# Altium schematic symbol library Componentes_base.SchLib: 431 symbols (part 8 of 12)
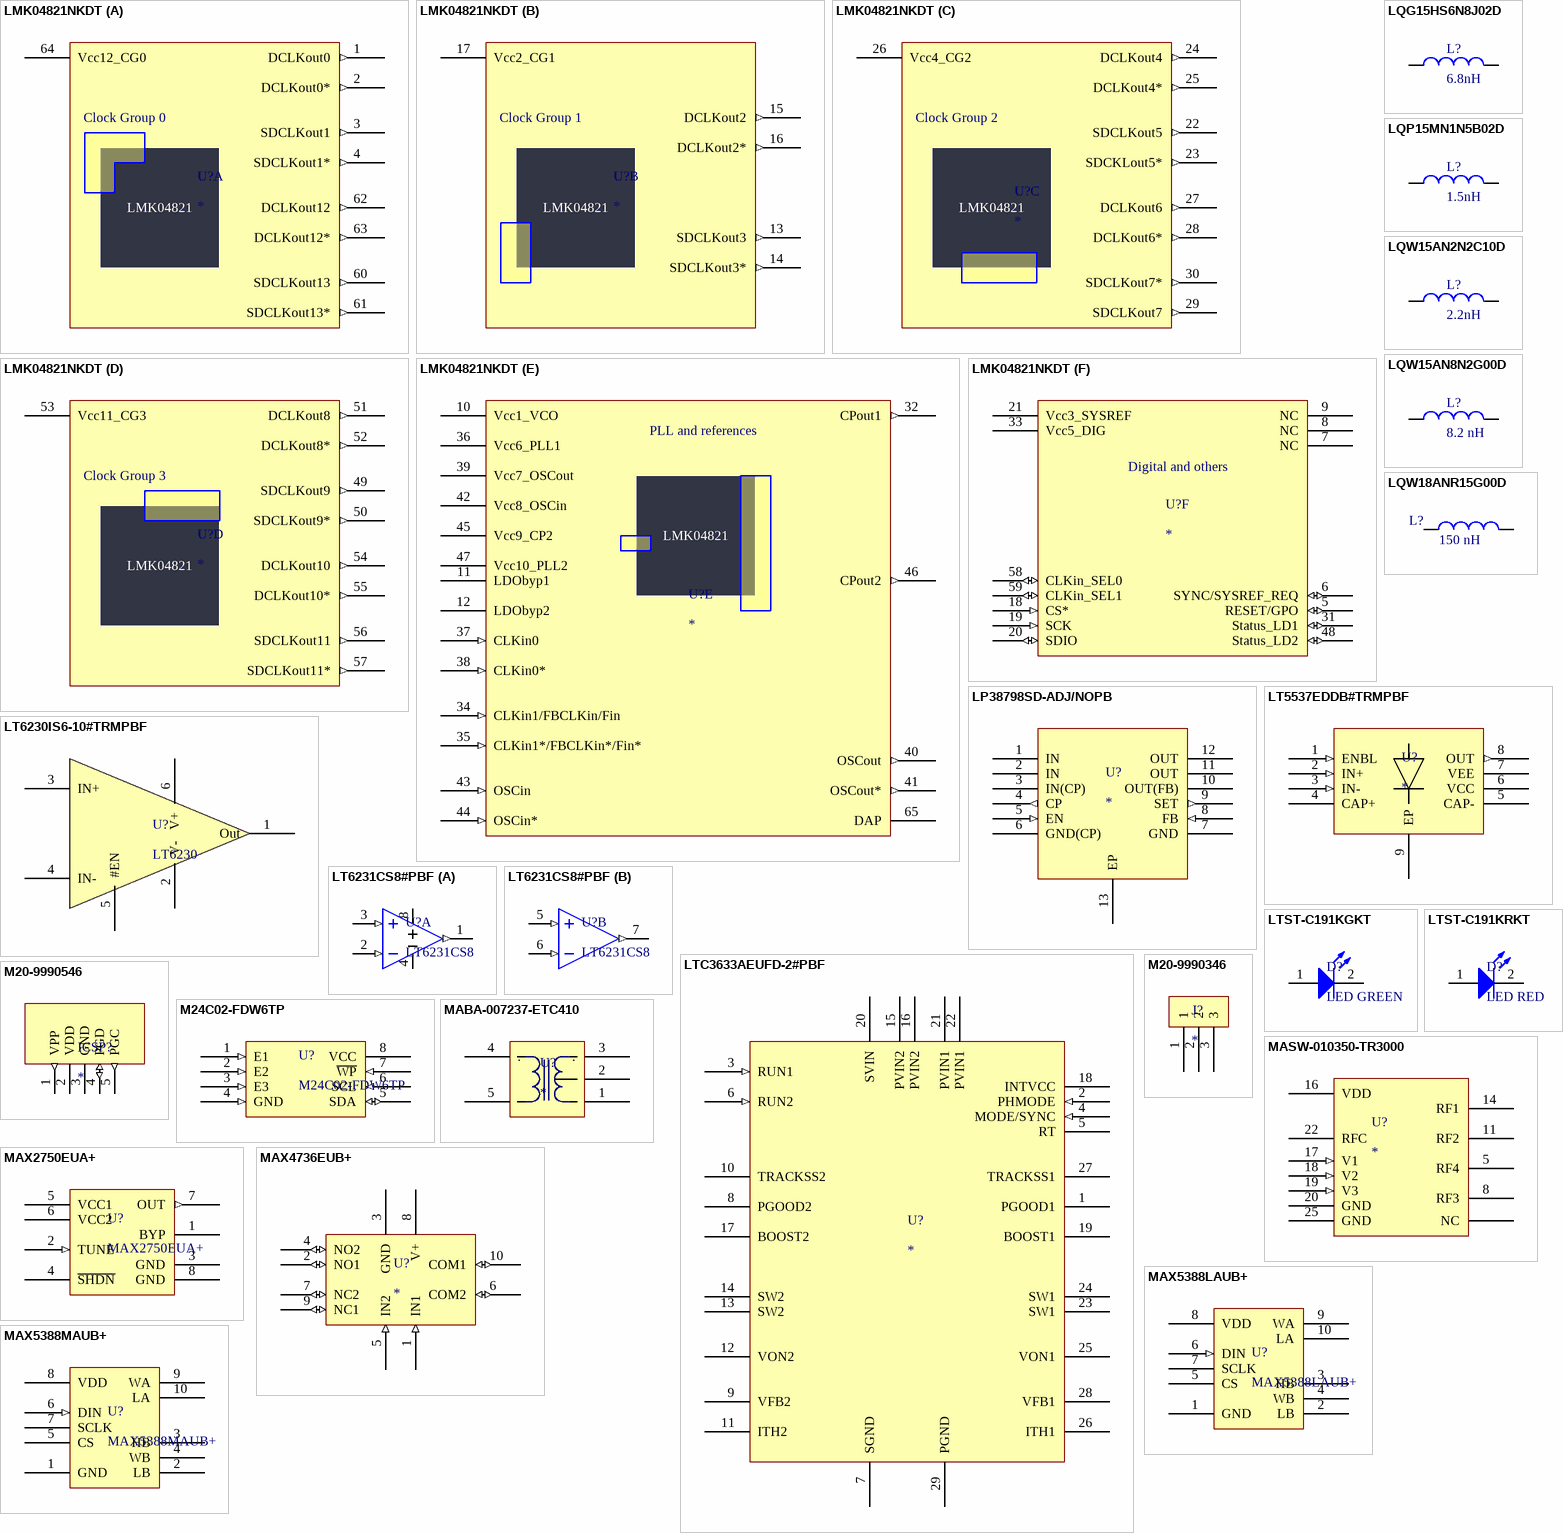
[diagram p21: symbols LMK04821NKDT to MAX5388MAUB+]

## MASW-010350-TR3000
designator U?
RF Switch ICs 10-4000MHZ IL .8dB SP4T GaAs; Manufacturer: MACOM; Manufacturer Part Number: MASW-010350-TR3000; Frequency: 0.01 GHz to 4 GHz; Supply Current: 1 uA; Insertion Loss: 0.8 dB; Off Time - Max: 40 ns; High Control Voltage: 7 V; Number of Switches: Single; Supply Voltage - Min: - 500 mV; Product Status: New Product; Frequency - Lower: 10MHz; Frequency - Upper: 4GHz; Isolation @ Frequency: 45dB @ 4GHz (typ); Insertion Loss @ Frequency: 1.9dB @ 4GHz; IIP3: 50dBm (typ); Topology: Absorptive; P1dB: 27dBm; Impedance: 50 Ohm; RF Type: General Purpose; Supplier 1: Mouser; Supplier Part Number 1: 937-MASW-010350-T; RoHS: RoHS Compliant; Category: RF Switch ICs; Stock 1: 2616; Pricing 1: 1=7.80, 10=7.02, 25=6.38, 100=5.78, 250=5.29, 500=4.84, 1000=4.08, 3000=3.94 (EUR); Package/Case: PQFN-24; Packaging: Reel; Series: MASW; Brand: MACOM; Mounting Style: SMD/SMT; On Time - Max: 40 ns; Switch Current - Typ: 1 uA; Maximum Operating Temperature: + 85 C; Minimum Operating Temperature: - 40 C; Standard Pack Qty: 3000; Supply Voltage - Max: 7 V; Switch Configuration: SP4T; RoHS - Mouser: Y; Minimum Order Quantity: 1; Reeling: True; ComponentLink1URL: http://www.mouser.com/ds/2/249/MASW-010350-473666.pdf; ComponentLink1Description: http://www.mouser.com/ds/2/249/MASW-010350-473666.pdf; Supplier 2: Digi-Key; Supplier Part Number 2: 1465-1370-1-ND; Stock 2: 2443; Pricing 2: 1=7.95, 10=7.145, 25=6.498, 100=5.8821, 250=5.38932, 500=4.92738, 1000=4.28066 (EUR); Circuit: SP4T; Features: -; Operating Temperature: -40°C ~ 85°C; Voltage - Supply: -; Package / Case: 24-VFQFN Exposed Pad; Supplier Device Package: 24-PQFN (4x4); ComponentLink2URL: http://cdn.macom.com/datasheets/MASW-010350.pdf; ComponentLink2Description: http://cdn.macom.com/datasheets/MASW-010350.pdf
footprint QFN50P400X400X100_HS-25N (QFN, 24-Leads, Body 4,00x4,00mm, Pitch 0,50mm, Thermal Pad 2,50x2,50mm, IPC Medium Density)
pins: 1 NC, 2 NC, 3 NC, 4 NC, 5 RF4, 6 NC, 7 NC, 8 RF3, 9 NC, 10 NC, 11 RF2, 12 NC, 13 NC, 14 RF1, 15 NC, 16 VDD (power), 17 V1 (in), 18 V2 (in), 19 V3 (in), 20 GND (power), 21 NC, 22 RFC, 23 NC, 24 NC, 25 GND (power)

## MAX2750EUA+
designator U?
IC OSC VOLT CNTRL 8-UMAX; Manufacturer: Maxim Integrated; Function: VCO; Frequency: 2.4GHz ~ 2.5GHz; RF Type: ISM; Secondary Attributes: On-Chip Tank Circuit; Supplier 1: Digi-Key; Manufacturer Part Number: MAX2750EUA+; RoHS: RoHS Compliant; Category: RF/IF and RFID; Stock 1: 2116; Pricing 1: 1=4.43, 10=4.21, 25=3.4664, 50=3.2932, 250=3.19312, 500=2.83092 (EUR); Packaging: Tube; Part Status: Active; Package / Case: 8-TSSOP, 8-MSOP (0.118", 3.00mm Width); Supplier Device Package: 8-uMAX; ComponentLink1URL: http://datasheets.maximintegrated.com/en/ds/MAX2750-MAX2752.pdf; ComponentLink1Description: http://datasheets.maximintegrated.com/en/ds/MAX2750-MAX2752.pdf; Supplier Part Number 1: MAX2750EUA+-ND
footprint uSOP-8 uMAX (TSOP, 8-Leads, Body 3,00x3,00mm, Pitch 0,65mm, IPC Medium Density)
pins: 1 BYP, 2 TUNE (in), 3 GND, 4 ~{SHDN}, 5 VCC1, 6 VCC2, 7 OUT (out), 8 GND

## MAX4736EUB+
designator U?
IC SWITCH DUAL SPDT 10UMAX; Manufacturer: Maxim Integrated; Manufacturer Part Number: MAX4736EUB+; Supply Current: 1 uA; Off Time - Max: 25 ns; On Resistance - Max: 1 Ohms; On Time - Max: 30 ns; Supply Current - Max: 0.001 mA; Maximum Power Dissipation: 444 mW; Number of Switches: 2; Operating Supply Voltage: 3 V; Supply Voltage - Max: 3.6 V; Supply Voltage - Min: 1.6 V; Circuit: 2 x SPDT; On-State Resistance: 800 mOhm; Voltage Supply Source: Single Supply; Voltage - Supply, Single/Dual (±): 1.6 V ~ 4.2 V; Current - Supply: 1µA; Supplier 1: Mouser; Supplier Part Number 1: 700-MAX4736EUB; RoHS: RoHS Compliant; Category: Analogue Switch ICs; Stock 1: 221; Pricing 1: 1=1.99, 25=1.78, 50=1.74, 100=1.70, 1000=1.68, 2000=1.63 (EUR); Package/Case: UMAX-10; Packaging: Tube; Series: MAX4736; Brand: Maxim Integrated; Mounting Style: SMD/SMT; Maximum Operating Temperature: + 55 C; Minimum Operating Temperature: - 40 C; Standard Pack Qty: 50; Switch Configuration: SPDT; RoHS - Mouser: Y; Minimum Order Quantity: 1; Reeling: False; ComponentLink1URL: http://www.mouser.com/ds/2/256/MAX4736-60550.pdf; ComponentLink1Description: http://www.mouser.com/ds/2/256/MAX4736-60550.pdf; Supplier 2: Digi-Key; Supplier Part Number 2: MAX4736EUB+-ND; Stock 2: 402; Pricing 2: 1=2.09, 10=1.978, 25=1.8488, 50=1.7852 (EUR); Function: Switch; Operating Temperature: -40°C ~ 85°C; Mounting Type: Surface Mount; Package / Case: 10-TFSOP, 10-MSOP (0.118", 3.00mm Width); Supplier Device Package: 10-uMAX; ComponentLink2URL: http://datasheets.maximintegrated.com/en/ds/MAX4736.pdf; ComponentLink2Description: http://datasheets.maximintegrated.com/en/ds/MAX4736.pdf
footprint uMAX10 (uMAX10 10-Leads, Body 2,97x2,97mm, Pitch 0,50mm, IPC Medium Density)
pins: 1 IN1 (in), 2 NO1 (io), 3 GND (power), 4 NO2 (io), 5 IN2 (in), 6 COM2 (io), 7 NC2 (io), 8 V+ (power), 9 NC1 (io), 10 COM1 (io)

## MAX5388LAUB+
designator U?
IC DGTL POT 256POS 10K 10UMAX; Manufacturer: Maxim Integrated; Configuration: Potentiometer, Rheostat; Number of Taps: 256; Interface: SPI; Memory Type: Volatile; Voltage - Supply: 2.6 V ~ 5.5 V; Tolerance: ±25%; Temperature Coefficient (Typ): 35 ppm/°C; Resistance - Wiper (Ohms) (Typ): 250; Supplier 1: Digi-Key; Manufacturer Part Number: MAX5388LAUB+; RoHS: RoHS Compliant; Category: Integrated Circuits (ICs); Stock 1: 396; Pricing 1: 1=1.09, 10=1.053, 50=1.0366 (EUR); Packaging: Tube; Part Status: Active; Taper: Linear; Resistance (Ohms): 10k; Features: -; Operating Temperature: -40°C ~ 125°C; Package / Case: 10-TFSOP, 10-MSOP (0.118", 3.00mm Width); Supplier Device Package: 10-uMAX; ComponentLink1URL: https://datasheets.maximintegrated.com/en/ds/MAX5386-MAX5388.pdf; ComponentLink1Description: https://datasheets.maximintegrated.com/en/ds/MAX5386-MAX5388.pdf; Supplier Part Number 1: MAX5388LAUB+-ND
footprint uSOP-10 uMAX (TSSOP, 10-Leads, Body 3,02x3,02mm, Pitch 0,50mm, IPC Medium Density)
pins: 1 GND (power), 2 LB, 3 HB, 4 WB, 5 CS, 6 DIN (in), 7 SCLK, 8 VDD (power), 9 WA, 10 LA

## MAX5388MAUB+
designator U?
IC DGTL POT 256POS 50K 10UMAX; Manufacturer: Maxim Integrated; Configuration: Potentiometer, Rheostat; Number of Circuits: 2; Number of Taps: 256; Interface: SPI; Memory Type: Volatile; Voltage - Supply: 2.6 V ~ 5.5 V; Tolerance: ±25%; Temperature Coefficient (Typ): 35 ppm/°C; Resistance - Wiper (Ohms) (Typ): 250; Supplier 1: Digi-Key; Manufacturer Part Number: MAX5388MAUB+; RoHS: RoHS Compliant; Category: Integrated Circuits (ICs); Stock 1: 338; Pricing 1: 1=1.04, 10=0.982 (EUR); Packaging: Tube; Part Status: Active; Taper: Linear; Resistance (Ohms): 50k; Features: -; Operating Temperature: -40°C ~ 125°C; Package / Case: 10-TFSOP, 10-MSOP (0.118", 3.00mm Width); Supplier Device Package: 10-uMAX; ComponentLink1URL: https://datasheets.maximintegrated.com/en/ds/MAX5386-MAX5388.pdf; ComponentLink1Description: https://datasheets.maximintegrated.com/en/ds/MAX5386-MAX5388.pdf; Supplier Part Number 1: MAX5388MAUB+-ND
footprint uSOP-10 uMAX (TSSOP, 10-Leads, Body 3,02x3,02mm, Pitch 0,50mm, IPC Medium Density)
pins: 1 GND (power), 2 LB, 3 HB, 4 WB, 5 CS, 6 DIN (in), 7 SCLK, 8 VDD (power), 9 WA, 10 LA

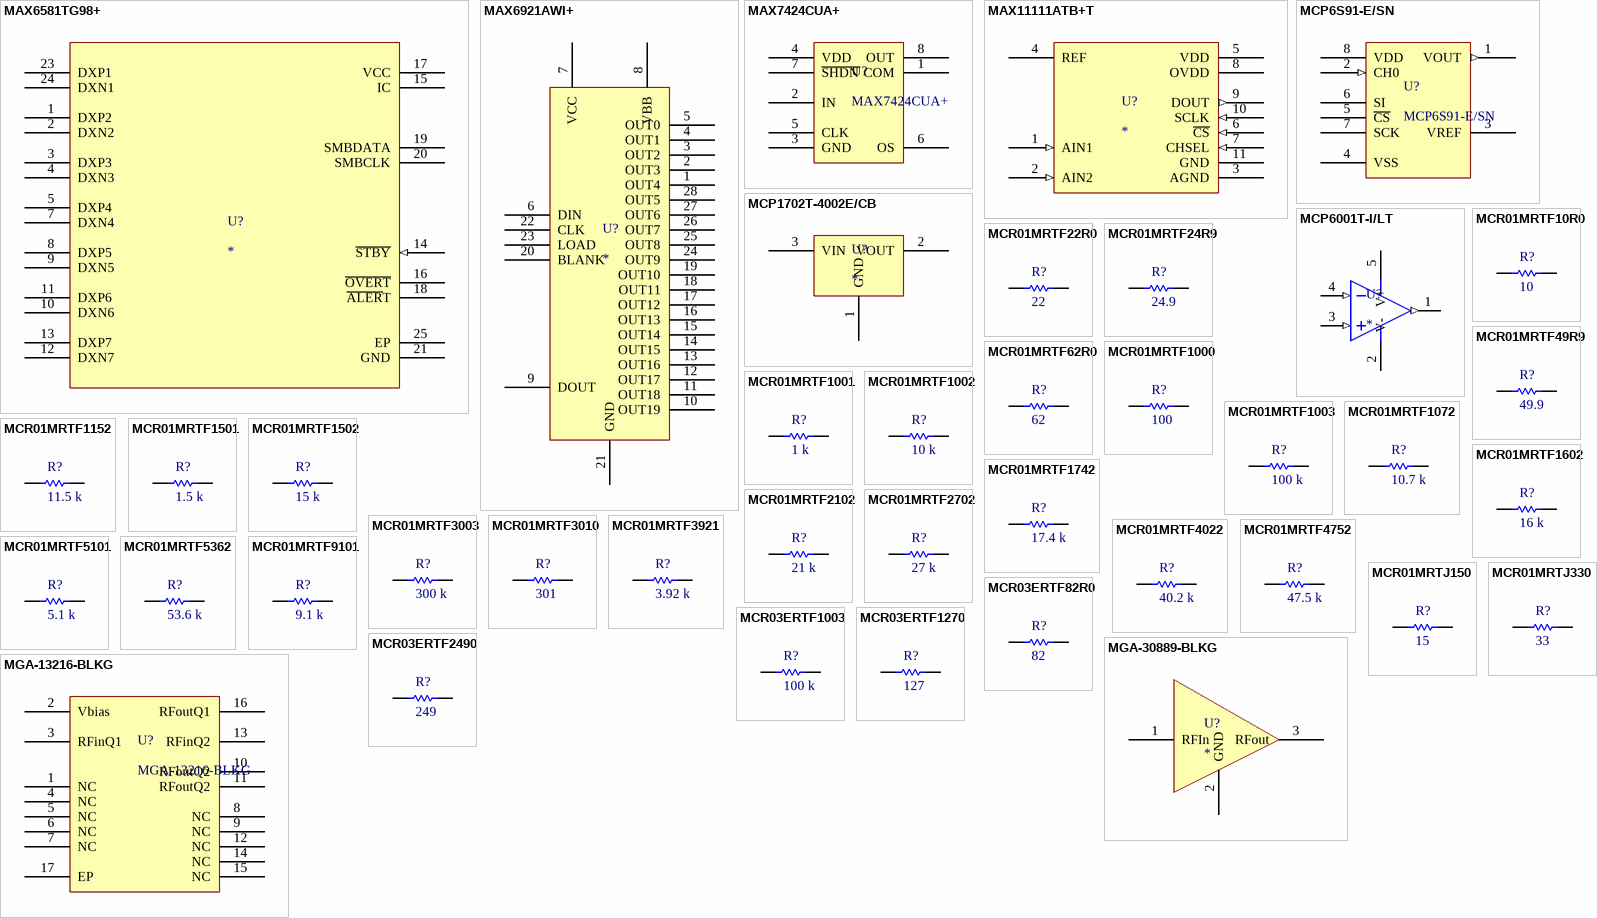
[diagram p8: symbols MAX6581TG98+ to MGA-30889-BLKG]

## MAX6581TG98+
designator U?
Board Mount Temperature Sensors 1C Accurate 8Ch Temperature Sensor; Manufacturer: Maxim Integrated; Manufacturer Part Number: MAX6581TG98+; Accuracy: +/- 1 C; Configuration: Local, Remote; Device Function: Multichannel Sensor; Output Type: Digital; Supply Current: 4 uA; Digital Output - Bus Interface: 2-Wire, I2C, SMBus; Digital Output - Number of Bits: 11 bit; Temperature Threshold: Programmable; Maximum Power Dissipation: 2.222 W; Supply Voltage - Max: 3.6 V; Supply Voltage - Min: 3 V; Function: Temperature Monitor; Sensor Type: Internal and External; Sensing Temperature: -64°C ~ 150°C; Output Alarm: Yes; Voltage - Supply: 3 V ~ 3.6 V; Supplier 1: Mouser; Supplier Part Number 1: 700-MAX6581TG98+; RoHS: RoHS Compliant; Category: Board Mount Temperature Sensors; Stock 1: 80; Pricing 1: 1=2.81, 25=1.89, 50=1.78, 100=1.36, 250=1.30, 500=1.20, 1000=1.18 (EUR); Package/Case: TQFN-24; Packaging: Tube; Series: MAX6581; Brand: Maxim Integrated; Mounting Style: SMD/SMT; Shutdown: Shutdown; Maximum Operating Temperature: + 125 C; Minimum Operating Temperature: - 40 C; Standard Pack Qty: 75; RoHS - Mouser: Y; Minimum Order Quantity: 1; Reeling: False; ComponentLink1URL: http://www.mouser.com/ds/2/256/MAX6581-370352.pdf; ComponentLink1Description: http://www.mouser.com/ds/2/256/MAX6581-370352.pdf; Supplier 2: Digi-Key; Supplier Part Number 2: MAX6581TG98+-ND; Stock 2: 56; Pricing 2: 1=2.94, 10=2.788, 25=1.9564, 50=1.8586, 100=1.418, 250=1.34716, 500=1.2473 (EUR); Topology: -; Output Fan: Yes; Operating Temperature: -40°C ~ 125°C; Mounting Type: Surface Mount; Package / Case: 24-WFQFN Exposed Pad; Supplier Device Package: 24-TQFN (4x4); ComponentLink2URL: http://datasheets.maximintegrated.com/en/ds/MAX6581.pdf; ComponentLink2Description: http://datasheets.maximintegrated.com/en/ds/MAX6581.pdf
footprint QFN50P400X400X80_HS-25N (QFN, 24-Leads, Body 4,00x4,00mm, Pitch 0,50mm, Thermal Pad 2,54x2,54mm, IPC Medium Density)
pins: 1 DXP2, 2 DXN2, 3 DXP3, 4 DXN3, 5 DXP4, 7 DXN4, 8 DXP5, 9 DXN5, 10 DXN6, 11 DXP6, 12 DXN7, 13 DXP7, 14 ~{STBY} (in), 15 IC, 16 ~{OVERT} (oc), 17 VCC (power), 18 ~{ALER}T (oc), 19 SMBDATA, 20 SMBCLK, 21 GND (power), 23 DXP1, 24 DXN1, 25 EP (power)

## MAX6921AWI+
designator U?
IC DRVR VFD TUBE SRL 28-SOIC
footprint TSOP127P1030X265-28N (SOP, 28-Leads, Body 17,90x7,50mm, Pitch 1,27mm, IPC Medium Density)
pins: 1 OUT4, 2 OUT3, 3 OUT2, 4 OUT1, 5 OUT0, 6 DIN, 7 VCC, 8 VBB, 9 DOUT, 10 OUT19, 11 OUT18, 12 OUT17, 13 OUT16, 14 OUT15, 15 OUT14, 16 OUT13, 17 OUT12, 18 OUT11, 19 OUT10, 20 BLANK, 21 GND, 22 CLK, 23 LOAD, 24 OUT9, 25 OUT8, 26 OUT7, 27 OUT6, 28 OUT5

## MAX7424CUA+
designator U?
IC FILTER LOWPASS 5TH 8-UMAX; Manufacturer: Maxim Integrated; Filter Type: Butterworth, Low Pass Switched Capacitor; Frequency - Cutoff or Center: 45kHz; Voltage - Supply: 2.7 V ~ 3.6 V; Supplier 1: Digi-Key; Manufacturer Part Number: MAX7424CUA+; RoHS: RoHS Compliant; Category: Integrated Circuits (ICs); Stock 1: 187; Pricing 1: 1=3.48, 10=3.348 (EUR); Packaging: Tube; Part Status: Active; Filter Order: 5th; Mounting Type: Surface Mount; Package / Case: 8-TSSOP, 8-MSOP (0.118", 3.00mm Width); Supplier Device Package: 8-uMAX; ComponentLink1URL: http://datasheets.maximintegrated.com/en/ds/MAX7418-MAX7425.pdf; ComponentLink1Description: http://datasheets.maximintegrated.com/en/ds/MAX7418-MAX7425.pdf; Supplier Part Number 1: MAX7424CUA+-ND
footprint uSOP-8 uMAX (TSOP, 8-Leads, Body 3,00x3,00mm, Pitch 0,65mm, IPC Medium Density)
pins: 1 COM, 2 IN, 3 GND, 4 VDD, 5 CLK, 6 OS, 7 ~{SHDN}, 8 OUT

## MAX11111ATB+T
designator U?
Analog to Digital Converters - ADC 8Bit 2Ch 3Msps Serial; Manufacturer: Maxim Integrated; Manufacturer Part Number: MAX11111ATB+T; Input Type: Single-Ended; Number of Converters: 1; Architecture: SAR; Conversion Rate: 3 MS/s; Interface Type: QSPI, Serial, SPI (3-Wire, Microwire); Number of Channels: 2 Channel; SNR: 49.8 dB; Maximum Power Dissipation: 1951 mW; Operating Supply Voltage: 2.2 V to 3.6 V; Voltage Reference: 1 V; Supplier 1: Mouser; Supplier Part Number 1: 700-MAX11111ATB+T; RoHS: RoHS Compliant; Category: Analog to Digital Converters - ADC; Stock 1: 2500; Pricing 1: 1=2.27, 25=1.70, 50=1.57, 100=1.50, 250=1.47, 500=1.33, 1000=1.24, 2500=1.04, 5000=1.03 (EUR); Package/Case: TDFN-10; Packaging: Reel; Resolution: 8 bit; Series: MAX11111; Brand: Maxim Integrated; Mounting Style: SMD/SMT; Maximum Operating Temperature: + 125 C; Minimum Operating Temperature: - 40 C; Standard Pack Qty: 2500; RoHS - Mouser: Y; Minimum Order Quantity: 1; Reeling: True; ComponentLink1URL: http://www.mouser.com/ds/2/256/MAX11102-MAX11117-96241.pdf; ComponentLink1Description: http://www.mouser.com/ds/2/256/MAX11102-MAX11117-96241.pdf
footprint DFN50P300X300X80_HS-11N (DFN, 10-Leads, Body 3,00x3,00mm, Pitch 0,50mm, Thermal Pad 2,30x1,50mm, IPC Medium Density)
pins: 1 AIN1 (in), 2 AIN2 (in), 3 AGND (power), 4 REF, 5 VDD (power), 6 ~{CS} (in), 7 CHSEL (in), 8 OVDD (power), 9 DOUT (out), 10 SCLK (in), 11 GND (power)

## MCP6S91-E/SN
designator U?
IC OPAMP PGA 18MHZ RRO 8SOIC; Manufacturer: Microchip Technology; Amplifier Type: Programmable Gain; Number of Circuits: 1; Output Type: Rail-to-Rail; Slew Rate: 22 V/µs; Current - Supply: 1mA; Current - Output / Channel: 25mA; Voltage - Supply, Single/Dual (±): 2.5 V ~ 5.5 V; Supplier 1: Digi-Key; Manufacturer Part Number: MCP6S91-E/SN; RoHS: RoHS Compliant; Category: Integrated Circuits (ICs); Stock 1: 9761; Pricing 1: 1=0.82, 25=0.684, 100=0.6261 (EUR); Packaging: Tube; Part Status: Active; -3db Bandwidth: 18MHz; Operating Temperature: -40°C ~ 125°C; Mounting Type: Surface Mount; Package / Case: 8-SOIC (0.154", 3.90mm Width); Supplier Device Package: 8-SOIC; ComponentLink1URL: http://www.microchip.com/mymicrochip/filehandler.aspx?ddocname=en021308; ComponentLink1Description: http://www.microchip.com/mymicrochip/filehandler.aspx?ddocname=en021308; Supplier Part Number 1: MCP6S91-E/SN-ND
footprint SOIC-8 (SOIC, 8-Leads, Body 4,90x3,90mm, Pitch 1,27mm, IPC Medium Density)
pins: 1 VOUT (out), 2 CH0 (in), 3 VREF (power), 4 VSS (power), 5 ~{CS}, 6 SI, 7 SCK, 8 VDD (power)

## MCP1702T-4002E/CB
designator U?
LDO Voltage Regulators Low Iq 250mA LDO Vin 13.2V max Vout=4.0V; Manufacturer: Microchip Technology; Manufacturer Part Number: MCP1702T-4002E/CB; Number of Outputs: 1 Output; Output Type: Fixed; Output Voltage: 4 V; Dropout Voltage - Max: 725 mV; PSRR / Ripple Rejection - Typ: 44 dB at 100 Hz; Input Voltage MIN: 2.7 V; Line Regulation: 0.3 %/V; Load Regulation: 2.5 %; Regulator Topology: Positive Fixed; Voltage - Output: 4V; Voltage - Dropout (Typical): 0.525V @ 250mA; Number of Regulators: 1; Voltage - Input: Up to 13.2V; Supplier 1: Mouser; Supplier Part Number 1: 579-MCP1702T4002E/CB; RoHS: RoHS Compliant; Category: LDO Voltage Regulators; Stock 1: 979; Pricing 1: 1=0.450, 10=0.415, 25=0.346, 100=0.311, 3000=0.311 (EUR); Input Voltage MAX: 13.2 V; Output Current: 250 mA; Package/Case: SOT-23A-3; Packaging: Reel; Brand: Microchip Technology; Mounting Style: SMD/SMT; Maximum Operating Temperature: + 125 C; Minimum Operating Temperature: - 40 C; Standard Pack Qty: 3000; RoHS - Mouser: Y; Minimum Order Quantity: 1; Reeling: True; ComponentLink1URL: http://www.mouser.com/ds/2/268/22008d-45809.pdf; ComponentLink1Description: http://www.mouser.com/ds/2/268/22008d-45809.pdf; Supplier 2: Digi-Key; Supplier Part Number 2: MCP1702T-4002E/CBCT-ND; Stock 2: 6209; Pricing 2: 1=0.51, 10=0.422, 25=0.352, 100=0.3168 (EUR); Current - Output: 250mA; Current - Limit (Min): -; Operating Temperature: -40°C ~ 125°C; Mounting Type: Surface Mount; Package / Case: TO-236-3, SC-59, SOT-23-3; Supplier Device Package: SOT-23A-3; ComponentLink2URL: http://www.microchip.com/mymicrochip/filehandler.aspx?ddocname=en028186; ComponentLink2Description: http://www.microchip.com/mymicrochip/filehandler.aspx?ddocname=en028186
footprint SOT95P230X110-3N (SOT23, 3-Leads, Body 2,90x2,30mm, Pitch 0,95mm, IPC Medium Density)
pins: 1 GND (power), 2 VOUT (power), 3 VIN (power)

## MCP6001T-I/LT
designator U?
Operational Amplifiers - Op Amps Single 1.8V 1MHz; Manufacturer: Microchip Technology; Manufacturer Part Number: MCP6001T-I/LT; Amplifier Type: Low Power Amplifier; Number of Channels: 1 Channel; Shutdown: No Shutdown; CMRR - Common Mode Rejection Ratio: 60 dB; en - Input Voltage Noise Density: 28 nV/sqrt Hz; Ib - Input Bias Current: 1 pA; In - Input Noise Current Density: 0.0006 pA/sqrt Hz; Operating Supply Current: 100 uA; Output Current per Channel: 23 mA; PSRR - Power Supply Rejection Ratio: 86 dB; SR - Slew Rate: 0.6 V/us; Supply Voltage - Max: 5.5 V; Vos - Input Offset Voltage: 4.5 mV; Supplier 1: Mouser; RoHS: RoHS Compliant; Category: Operational Amplifiers - Op Amps; Stock 1: 33208; Pricing 1: 1=0.253, 10=0.235, 25=0.190, 100=0.172, 3000=0.172 (EUR); Package/Case: SC-70-5; Packaging: Reel; Product: Operational Amplifiers; Technology: CMOS; Brand: Microchip Technology; Mounting Style: SMD/SMT; GBP - Gain Bandwidth Product: 1 MHz; Maximum Operating Temperature: + 85 C; Minimum Operating Temperature: - 40 C; Product Category: Amplifiers; Standard Pack Qty: 3000; Supply Voltage - Min: 1.8 V; RoHS - Mouser: Y; Minimum Order Quantity: 1; Reeling: True; ComponentLink1URL: http://www.mouser.com/ds/2/268/21733e-41017.pdf; ComponentLink1Description: http://www.mouser.com/ds/2/268/21733e-41017.pdf; Supplier Part Number 1: 579-MCP6001T-I/LT
footprint SC70P210X110-5L (SC-70 5-Leads, Body 2,00x2,10mm, Pitch 0,65mm, IPC High Density)
pins: 1 OUT (out), 2 V- (power), 3 IN+ (in), 4 IN- (in), 5 V+ (power)

## MCR01MRTF10R0
designator R?, comment 10
RES 10 OHM 1/16W 1% 0402 SMD; Manufacturer: Rohm Semiconductor; Manufacturer Part Number: MCR01MRTF10R0; Power (Watts): 0.063W, 1/16W; Temperature Coefficient: ±100ppm/°C; Supplier 1: Digi-Key; Supplier Part Number 1: RHM10.0CDCT-ND; RoHS: RoHS Compliant; Category: Resistors; Stock 1: 323665; Pricing 1: 1=0.09, 10=0.011, 25=0.008, 100=0.0046, 250=0.00348, 500=0.00278, 1000=0.00205, 5000=0.00147 (EUR); Packaging: Cut Tape (CT); Resistance (Ohms): 10; Tolerance: ±1%; Composition: Thick Film; Features: -; Operating Temperature: -55°C ~ 155°C; Package / Case: 0402 (1005 Metric); Supplier Device Package: 0402 (1005 Metric); Size / Dimension: 0.039" L x 0.020" W (1.00mm x 0.50mm); Height: 0.016" (0.40mm); Number of Terminations: 2; ComponentLink1URL: http://rohmfs.rohm.com/en/products/databook/datasheet/passive/resistor/chip_resistor/mcr_g.pdf; ComponentLink1Description: http://rohmfs.rohm.com/en/products/databook/datasheet/passive/resistor/chip_resistor/mcr_g.pdf
footprint RESC1005X04L (Chip Resistor, 2-Leads, Body 1,00x0,50mm, IPC High Density)
pins: 1, 2

## MCR01MRTF22R0
designator R?, comment 22
RES 22 OHM 1/16W 1% 0402 SMD; Manufacturer: Rohm Semiconductor; Manufacturer Part Number: MCR01MRTF22R0; Power (Watts): 0.063W, 1/16W; Temperature Coefficient: ±100ppm/°C; Supplier 1: Digi-Key; Supplier Part Number 1: RHM22.0CDCT-ND; RoHS: RoHS Compliant; Category: Resistors; Stock 1: 157202; Pricing 1: 1=0.09, 10=0.011, 25=0.008, 100=0.0046, 250=0.00348, 500=0.00278, 1000=0.00205, 5000=0.00147 (EUR); Packaging: Cut Tape (CT); Resistance (Ohms): 22; Tolerance: ±1%; Composition: Thick Film; Features: -; Operating Temperature: -55°C ~ 155°C; Package / Case: 0402 (1005 Metric); Supplier Device Package: 0402 (1005 Metric); Size / Dimension: 0.039" L x 0.020" W (1.00mm x 0.50mm); Height: 0.016" (0.40mm); Number of Terminations: 2; ComponentLink1URL: http://rohmfs.rohm.com/en/products/databook/datasheet/passive/resistor/chip_resistor/mcr_g.pdf; ComponentLink1Description: http://rohmfs.rohm.com/en/products/databook/datasheet/passive/resistor/chip_resistor/mcr_g.pdf
footprint RESC1005X04L (Chip Resistor, 2-Leads, Body 1,00x0,50mm, IPC High Density)
pins: 1, 2

## MCR01MRTF24R9
designator R?, comment 24.9
RES SMD 24.9 OHM 1% 1/16W 0402; Manufacturer: Rohm Semiconductor; Manufacturer Part Number: MCR01MRTF24R9; Power (Watts): 0.063W, 1/16W; Temperature Coefficient: ±100ppm/°C; Supplier 1: Digi-Key; RoHS: RoHS Compliant; Category: Resistors; Stock 1: 33185; Pricing 1: 1=0.09, 10=0.026, 25=0.0184, 100=0.0103, 250=0.00792, 500=0.00632, 1000=0.00466, 5000=0.00334 (EUR); Packaging: Cut Tape (CT); Resistance (Ohms): 24.9; Tolerance: ±1%; Composition: Thick Film; Features: -; Operating Temperature: -55°C ~ 155°C; Package / Case: 0402 (1005 Metric); Supplier Device Package: 0402 (1005 Metric); Size / Dimension: 0.039" L x 0.020" W (1.00mm x 0.50mm); Height: 0.016" (0.40mm); Number of Terminations: 2; ComponentLink1URL: http://rohmfs.rohm.com/en/products/databook/datasheet/passive/resistor/chip_resistor/mcr_g.pdf; ComponentLink1Description: http://rohmfs.rohm.com/en/products/databook/datasheet/passive/resistor/chip_resistor/mcr_g.pdf; Supplier Part Number 1: RHM24.9CDCT-ND
footprint RESC1005X04L (Chip Resistor, 2-Leads, Body 1,00x0,50mm, IPC High Density)
pins: 1, 2

## MCR01MRTF49R9
designator R?, comment 49.9
RES 49.9 OHM 1/16W 1% 0402 SMD; Manufacturer: Rohm Semiconductor; Manufacturer Part Number: MCR01MRTF49R9; Power (Watts): 0.063W, 1/16W; Temperature Coefficient: ±100ppm/°C; Supplier 1: Digi-Key; Supplier Part Number 1: RHM49.9CDCT-ND; RoHS: RoHS Compliant; Category: Resistors; Stock 1: 141395; Pricing 1: 1=0.09, 10=0.011, 25=0.008, 100=0.0046, 250=0.00348, 500=0.00278, 1000=0.00205, 5000=0.00147 (EUR); Packaging: Cut Tape (CT); Resistance (Ohms): 49.9; Tolerance: ±1%; Composition: Thick Film; Features: -; Operating Temperature: -55°C ~ 155°C; Package / Case: 0402 (1005 Metric); Supplier Device Package: 0402 (1005 Metric); Size / Dimension: 0.039" L x 0.020" W (1.00mm x 0.50mm); Height: 0.016" (0.40mm); Number of Terminations: 2; ComponentLink1URL: http://rohmfs.rohm.com/en/products/databook/datasheet/passive/resistor/chip_resistor/mcr_g.pdf; ComponentLink1Description: http://rohmfs.rohm.com/en/products/databook/datasheet/passive/resistor/chip_resistor/mcr_g.pdf
footprint RESC1005X04L (Chip Resistor, 2-Leads, Body 1,00x0,50mm, IPC High Density)
pins: 1, 2

## MCR01MRTF62R0
designator R?, comment 62
RES SMD 62 OHM 1% 1/16W 0402; Manufacturer: Rohm Semiconductor; Manufacturer Part Number: MCR01MRTF62R0; Power (Watts): 0.063W, 1/16W; Temperature Coefficient: ±100ppm/°C; Supplier 1: Digi-Key; RoHS: RoHS Compliant; Category: Resistors; Stock 1: 12941; Pricing 1: 1=0.09, 10=0.026, 25=0.0184, 100=0.0103, 250=0.00792, 500=0.00632, 1000=0.00466, 5000=0.00334 (EUR); Packaging: Cut Tape (CT); Resistance (Ohms): 62; Tolerance: ±1%; Composition: Thick Film; Features: -; Operating Temperature: -55°C ~ 155°C; Package / Case: 0402 (1005 Metric); Supplier Device Package: 0402 (1005 Metric); Size / Dimension: 0.039" L x 0.020" W (1.00mm x 0.50mm); Height: 0.016" (0.40mm); Number of Terminations: 2; ComponentLink1URL: http://rohmfs.rohm.com/en/products/databook/datasheet/passive/resistor/chip_resistor/mcr_g.pdf; ComponentLink1Description: http://rohmfs.rohm.com/en/products/databook/datasheet/passive/resistor/chip_resistor/mcr_g.pdf; Supplier Part Number 1: RHM62CDCT-ND
footprint RESC1005X04L (Chip Resistor, 2-Leads, Body 1,00x0,50mm, IPC High Density)
pins: 1, 2

## MCR01MRTF1000
designator R?, comment 100
RES 100 OHM 1/16W 1% 0402 SMD; Manufacturer: Rohm Semiconductor; Manufacturer Part Number: MCR01MRTF1000; Power (Watts): 0.063W, 1/16W; Temperature Coefficient: ±100ppm/°C; Supplier 1: Digi-Key; Supplier Part Number 1: RHM100CDCT-ND; RoHS: RoHS Compliant; Category: Resistors; Stock 1: 128227; Pricing 1: 1=0.09, 10=0.011, 25=0.008, 100=0.0046, 250=0.00348, 500=0.00278, 1000=0.00205, 5000=0.00147 (EUR); Packaging: Cut Tape (CT); Resistance (Ohms): 100; Tolerance: ±1%; Composition: Thick Film; Features: -; Operating Temperature: -55°C ~ 155°C; Package / Case: 0402 (1005 Metric); Supplier Device Package: 0402 (1005 Metric); Size / Dimension: 0.039" L x 0.020" W (1.00mm x 0.50mm); Height: 0.016" (0.40mm); Number of Terminations: 2; ComponentLink1URL: http://rohmfs.rohm.com/en/products/databook/datasheet/passive/resistor/chip_resistor/mcr_g.pdf; ComponentLink1Description: http://rohmfs.rohm.com/en/products/databook/datasheet/passive/resistor/chip_resistor/mcr_g.pdf
footprint RESC1005X04L (Chip Resistor, 2-Leads, Body 1,00x0,50mm, IPC High Density)
pins: 1, 2

## MCR01MRTF1001
designator R?, comment 1 k
RES 1K OHM 1/16W 1% 0402 SMD; Manufacturer: Rohm Semiconductor; Manufacturer Part Number: MCR01MRTF1001; Power (Watts): 0.063W, 1/16W; Temperature Coefficient: ±100ppm/°C; Supplier 1: Digi-Key; Supplier Part Number 1: RHM1.00KCDCT-ND; RoHS: RoHS Compliant; Category: Resistors; Stock 1: 170797; Pricing 1: 1=0.09, 10=0.011, 25=0.008, 100=0.0046, 250=0.00348, 500=0.00278, 1000=0.00205, 5000=0.00147 (EUR); Packaging: Cut Tape (CT); Resistance (Ohms): 1k; Tolerance: ±1%; Composition: Thick Film; Features: -; Operating Temperature: -55°C ~ 155°C; Package / Case: 0402 (1005 Metric); Supplier Device Package: 0402 (1005 Metric); Size / Dimension: 0.039" L x 0.020" W (1.00mm x 0.50mm); Height: 0.016" (0.40mm); Number of Terminations: 2; ComponentLink1URL: http://rohmfs.rohm.com/en/products/databook/datasheet/passive/resistor/chip_resistor/mcr_g.pdf; ComponentLink1Description: http://rohmfs.rohm.com/en/products/databook/datasheet/passive/resistor/chip_resistor/mcr_g.pdf
footprint RESC1005X04L (Chip Resistor, 2-Leads, Body 1,00x0,50mm, IPC High Density)
pins: 1, 2

## MCR01MRTF1002
designator R?, comment 10 k
RES 10K OHM 1/16W 1% 0402 SMD; Manufacturer: Rohm Semiconductor; Manufacturer Part Number: MCR01MRTF1002; Power (Watts): 0.063W, 1/16W; Temperature Coefficient: ±100ppm/°C; Supplier 1: Digi-Key; Supplier Part Number 1: RHM10.0KCDCT-ND; RoHS: RoHS Compliant; Category: Resistors; Stock 1: 47195; Pricing 1: 1=0.09, 10=0.011, 25=0.008, 100=0.0046, 250=0.00348, 500=0.00278, 1000=0.00205, 5000=0.00147 (EUR); Packaging: Cut Tape (CT); Resistance (Ohms): 10k; Tolerance: ±1%; Composition: Thick Film; Features: -; Operating Temperature: -55°C ~ 155°C; Package / Case: 0402 (1005 Metric); Supplier Device Package: 0402 (1005 Metric); Size / Dimension: 0.039" L x 0.020" W (1.00mm x 0.50mm); Height: 0.016" (0.40mm); Number of Terminations: 2; ComponentLink1URL: http://rohmfs.rohm.com/en/products/databook/datasheet/passive/resistor/chip_resistor/mcr_g.pdf; ComponentLink1Description: http://rohmfs.rohm.com/en/products/databook/datasheet/passive/resistor/chip_resistor/mcr_g.pdf
footprint RESC1005X04L (Chip Resistor, 2-Leads, Body 1,00x0,50mm, IPC High Density)
pins: 1, 2

## MCR01MRTF1003
designator R?, comment 100 k
RES 100K OHM 1/16W 1% 0402 SMD; Manufacturer: Rohm Semiconductor; Manufacturer Part Number: MCR01MRTF1003; Power (Watts): 0.063W, 1/16W; Temperature Coefficient: ±100ppm/°C; Supplier 1: Digi-Key; Supplier Part Number 1: RHM100KCDCT-ND; RoHS: RoHS Compliant; Category: Resistors; Stock 1: 327849; Pricing 1: 1=0.09, 10=0.011, 25=0.008, 100=0.0046, 250=0.00348, 500=0.00278, 1000=0.00205, 5000=0.00147 (EUR); Packaging: Cut Tape (CT); Resistance (Ohms): 100k; Tolerance: ±1%; Composition: Thick Film; Features: -; Operating Temperature: -55°C ~ 155°C; Package / Case: 0402 (1005 Metric); Supplier Device Package: 0402 (1005 Metric); Size / Dimension: 0.039" L x 0.020" W (1.00mm x 0.50mm); Height: 0.016" (0.40mm); Number of Terminations: 2; ComponentLink1URL: http://rohmfs.rohm.com/en/products/databook/datasheet/passive/resistor/chip_resistor/mcr_g.pdf; ComponentLink1Description: http://rohmfs.rohm.com/en/products/databook/datasheet/passive/resistor/chip_resistor/mcr_g.pdf
footprint RESC1005X04L (Chip Resistor, 2-Leads, Body 1,00x0,50mm, IPC High Density)
pins: 1, 2

## MCR01MRTF1072
designator R?, comment 10.7 k
RES 10.7K OHM 1/16W 1% 0402 SMD; Manufacturer: Rohm Semiconductor; Manufacturer Part Number: MCR01MRTF1072; Power (Watts): 0.063W, 1/16W; Temperature Coefficient: ±100ppm/°C; Supplier 1: Digi-Key; Supplier Part Number 1: RHM10.7KCDCT-ND; RoHS: RoHS Compliant; Category: Resistors; Stock 1: 26740; Pricing 1: 1=0.09, 10=0.01, 25=0.0092, 100=0.0065, 250=0.00384, 500=0.00318, 1000=0.00217, 5000=0.00167 (EUR); Packaging: Cut Tape (CT); Resistance (Ohms): 10.7k; Tolerance: ±1%; Composition: Thick Film; Features: -; Operating Temperature: -55°C ~ 155°C; Package / Case: 0402 (1005 Metric); Supplier Device Package: 0402 (1005 Metric); Size / Dimension: 0.039" L x 0.020" W (1.00mm x 0.50mm); Height: 0.016" (0.40mm); Number of Terminations: 2; ComponentLink1URL: http://rohmfs.rohm.com/en/products/databook/datasheet/passive/resistor/chip_resistor/mcr_g.pdf; ComponentLink1Description: http://rohmfs.rohm.com/en/products/databook/datasheet/passive/resistor/chip_resistor/mcr_g.pdf
footprint RESC1005X04L (Chip Resistor, 2-Leads, Body 1,00x0,50mm, IPC High Density)
pins: 1, 2

## MCR01MRTF1152
designator R?, comment 11.5 k
RES 11.5K OHM 1/16W 1% 0402 SMD; Manufacturer: Rohm Semiconductor; Manufacturer Part Number: MCR01MRTF1152; Power (Watts): 0.063W, 1/16W; Temperature Coefficient: ±100ppm/°C; Supplier 1: Digi-Key; Supplier Part Number 1: RHM11.5KCDCT-ND; RoHS: RoHS Compliant; Category: Resistors; Stock 1: 66077; Pricing 1: 1=0.09, 10=0.011, 25=0.008, 100=0.0046, 250=0.00348, 500=0.00278, 1000=0.00205, 5000=0.00147 (EUR); Packaging: Cut Tape (CT); Resistance (Ohms): 11.5k; Tolerance: ±1%; Composition: Thick Film; Features: -; Operating Temperature: -55°C ~ 155°C; Package / Case: 0402 (1005 Metric); Supplier Device Package: 0402 (1005 Metric); Size / Dimension: 0.039" L x 0.020" W (1.00mm x 0.50mm); Height: 0.016" (0.40mm); Number of Terminations: 2; ComponentLink1URL: http://rohmfs.rohm.com/en/products/databook/datasheet/passive/resistor/chip_resistor/mcr_g.pdf; ComponentLink1Description: http://rohmfs.rohm.com/en/products/databook/datasheet/passive/resistor/chip_resistor/mcr_g.pdf
footprint RESC1005X04L (Chip Resistor, 2-Leads, Body 1,00x0,50mm, IPC High Density)
pins: 1, 2

## MCR01MRTF1501
designator R?, comment 1.5 k
RES 1.5K OHM 1/16W 1% 0402 SMD; Manufacturer: Rohm Semiconductor; Manufacturer Part Number: MCR01MRTF1501; Power (Watts): 0.063W, 1/16W; Temperature Coefficient: ±100ppm/°C; Supplier 1: Digi-Key; Supplier Part Number 1: RHM1.50KCDCT-ND; RoHS: RoHS Compliant; Category: Resistors; Stock 1: 25160; Pricing 1: 1=0.09, 10=0.011, 25=0.008, 100=0.0046, 250=0.00348, 500=0.00278, 1000=0.00205, 5000=0.00147 (EUR); Packaging: Cut Tape (CT); Resistance (Ohms): 1.5k; Tolerance: ±1%; Composition: Thick Film; Features: -; Operating Temperature: -55°C ~ 155°C; Package / Case: 0402 (1005 Metric); Supplier Device Package: 0402 (1005 Metric); Size / Dimension: 0.039" L x 0.020" W (1.00mm x 0.50mm); Height: 0.016" (0.40mm); Number of Terminations: 2; ComponentLink1URL: http://rohmfs.rohm.com/en/products/databook/datasheet/passive/resistor/chip_resistor/mcr_g.pdf; ComponentLink1Description: http://rohmfs.rohm.com/en/products/databook/datasheet/passive/resistor/chip_resistor/mcr_g.pdf
footprint RESC1005X04L (Chip Resistor, 2-Leads, Body 1,00x0,50mm, IPC High Density)
pins: 1, 2

## MCR01MRTF1502
designator R?, comment 15 k
RES 15K OHM 1/16W 1% 0402 SMD; Manufacturer: Rohm Semiconductor; Manufacturer Part Number: MCR01MRTF1502; Power (Watts): 0.063W, 1/16W; Temperature Coefficient: ±100ppm/°C; Supplier 1: Digi-Key; Supplier Part Number 1: RHM15.0KCDCT-ND; RoHS: RoHS Compliant; Category: Resistors; Stock 1: 80151; Pricing 1: 1=0.09, 10=0.011, 25=0.008, 100=0.0046, 250=0.00348, 500=0.00278, 1000=0.00205, 5000=0.00147 (EUR); Packaging: Cut Tape (CT); Resistance (Ohms): 15k; Tolerance: ±1%; Composition: Thick Film; Features: -; Operating Temperature: -55°C ~ 155°C; Package / Case: 0402 (1005 Metric); Supplier Device Package: 0402 (1005 Metric); Size / Dimension: 0.039" L x 0.020" W (1.00mm x 0.50mm); Height: 0.016" (0.40mm); Number of Terminations: 2; ComponentLink1URL: http://rohmfs.rohm.com/en/products/databook/datasheet/passive/resistor/chip_resistor/mcr_g.pdf; ComponentLink1Description: http://rohmfs.rohm.com/en/products/databook/datasheet/passive/resistor/chip_resistor/mcr_g.pdf
footprint RESC1005X04L (Chip Resistor, 2-Leads, Body 1,00x0,50mm, IPC High Density)
pins: 1, 2

## MCR01MRTF1602
designator R?, comment 16 k
RES 16K OHM 1/16W 1% 0402 SMD; Manufacturer: Rohm Semiconductor; Manufacturer Part Number: MCR01MRTF1602; Power (Watts): 0.063W, 1/16W; Temperature Coefficient: ±100ppm/°C; Supplier 1: Digi-Key; Supplier Part Number 1: RHM16KCDCT-ND; RoHS: RoHS Compliant; Category: Resistors; Stock 1: 0; Pricing 1: 1=0.09, 10=0.01, 25=0.0092, 100=0.0065, 250=0.00384, 500=0.00318, 1000=0.00217, 5000=0.00167 (EUR); Packaging: Cut Tape (CT); Resistance (Ohms): 16k; Tolerance: ±1%; Composition: Thick Film; Features: -; Operating Temperature: -55°C ~ 155°C; Package / Case: 0402 (1005 Metric); Supplier Device Package: 0402 (1005 Metric); Size / Dimension: 0.039" L x 0.020" W (1.00mm x 0.50mm); Height: 0.016" (0.40mm); Number of Terminations: 2; ComponentLink1URL: http://rohmfs.rohm.com/en/products/databook/datasheet/passive/resistor/chip_resistor/mcr_g.pdf; ComponentLink1Description: http://rohmfs.rohm.com/en/products/databook/datasheet/passive/resistor/chip_resistor/mcr_g.pdf
footprint RESC1005X04L (Chip Resistor, 2-Leads, Body 1,00x0,50mm, IPC High Density)
pins: 1, 2

## MCR01MRTF1742
designator R?, comment 17.4 k
RES SMD 17.4K OHM 1% 1/16W 0402; Manufacturer: Rohm Semiconductor; Manufacturer Part Number: MCR01MRTF1742; Power (Watts): 0.063W, 1/16W; Temperature Coefficient: ±100ppm/°C; Supplier 1: Digi-Key; RoHS: RoHS Compliant; Category: Resistors; Stock 1: 26519; Pricing 1: 1=0.09, 10=0.026, 25=0.0184, 100=0.0103, 250=0.00792, 500=0.00632, 1000=0.00466, 5000=0.00334 (EUR); Packaging: Digi-Reel®; Resistance (Ohms): 17.4k; Tolerance: ±1%; Composition: Thick Film; Features: -; Operating Temperature: -55°C ~ 155°C; Package / Case: 0402 (1005 Metric); Supplier Device Package: 0402 (1005 Metric); Size / Dimension: 0.039" L x 0.020" W (1.00mm x 0.50mm); Height: 0.016" (0.40mm); Number of Terminations: 2; ComponentLink1URL: http://rohmfs.rohm.com/en/products/databook/datasheet/passive/resistor/chip_resistor/mcr_g.pdf; ComponentLink1Description: http://rohmfs.rohm.com/en/products/databook/datasheet/passive/resistor/chip_resistor/mcr_g.pdf; Supplier Part Number 1: RHM17.4KCDDKR-ND
footprint RESC1005X04L (Chip Resistor, 2-Leads, Body 1,00x0,50mm, IPC High Density)
pins: 1, 2

## MCR01MRTF2102
designator R?, comment 21 k
RES 21K OHM 1/16W 1% 0402 SMD; Manufacturer: Rohm Semiconductor; Manufacturer Part Number: MCR01MRTF2102; Power (Watts): 0.063W, 1/16W; Temperature Coefficient: ±100ppm/°C; Supplier 1: Digi-Key; Supplier Part Number 1: RHM21KCDCT-ND; RoHS: RoHS Compliant; Category: Resistors; Stock 1: 18868; Pricing 1: 1=0.09, 10=0.01, 25=0.0092, 100=0.0065, 250=0.00384, 500=0.00318, 1000=0.00217, 5000=0.00167 (EUR); Packaging: Cut Tape (CT); Resistance (Ohms): 21k; Tolerance: ±1%; Composition: Thick Film; Features: -; Operating Temperature: -55°C ~ 155°C; Package / Case: 0402 (1005 Metric); Supplier Device Package: 0402 (1005 Metric); Size / Dimension: 0.039" L x 0.020" W (1.00mm x 0.50mm); Height: 0.016" (0.40mm); Number of Terminations: 2; ComponentLink1URL: http://rohmfs.rohm.com/en/products/databook/datasheet/passive/resistor/chip_resistor/mcr_g.pdf; ComponentLink1Description: http://rohmfs.rohm.com/en/products/databook/datasheet/passive/resistor/chip_resistor/mcr_g.pdf
footprint RESC1005X04L (Chip Resistor, 2-Leads, Body 1,00x0,50mm, IPC High Density)
pins: 1, 2

## MCR01MRTF2702
designator R?, comment 27 k
RES SMD 27K OHM 1% 1/16W 0402; Manufacturer: Rohm Semiconductor; Manufacturer Part Number: MCR01MRTF2702; Power (Watts): 0.063W, 1/16W; Temperature Coefficient: ±100ppm/°C; Supplier 1: Digi-Key; RoHS: RoHS Compliant; Category: Resistors; Stock 1: 55775; Pricing 1: 1=0.09, 10=0.026, 25=0.0184, 100=0.0103, 250=0.00792, 500=0.00632, 1000=0.00466, 5000=0.00334 (EUR); Packaging: Cut Tape (CT); Resistance (Ohms): 27k; Tolerance: ±1%; Composition: Thick Film; Features: -; Operating Temperature: -55°C ~ 155°C; Package / Case: 0402 (1005 Metric); Supplier Device Package: 0402 (1005 Metric); Size / Dimension: 0.039" L x 0.020" W (1.00mm x 0.50mm); Height: 0.016" (0.40mm); Number of Terminations: 2; ComponentLink1URL: http://rohmfs.rohm.com/en/products/databook/datasheet/passive/resistor/chip_resistor/mcr_g.pdf; ComponentLink1Description: http://rohmfs.rohm.com/en/products/databook/datasheet/passive/resistor/chip_resistor/mcr_g.pdf; Supplier Part Number 1: RHM27.0KCDCT-ND
footprint RESC1005X04L (Chip Resistor, 2-Leads, Body 1,00x0,50mm, IPC High Density)
pins: 1, 2

## MCR01MRTF3003
designator R?, comment 300 k
RES 300K OHM 1/16W 1% 0402 SMD; Manufacturer: Rohm Semiconductor; Manufacturer Part Number: MCR01MRTF3003; Power (Watts): 0.063W, 1/16W; Temperature Coefficient: ±100ppm/°C; Supplier 1: Digi-Key; Supplier Part Number 1: RHM300KCDCT-ND; RoHS: RoHS Compliant; Category: Resistors; Stock 1: 146203; Pricing 1: 1=0.09, 10=0.011, 25=0.008, 100=0.0046, 250=0.00348, 500=0.00278, 1000=0.00205, 5000=0.00147 (EUR); Packaging: Cut Tape (CT); Resistance (Ohms): 300k; Tolerance: ±1%; Composition: Thick Film; Features: -; Operating Temperature: -55°C ~ 155°C; Package / Case: 0402 (1005 Metric); Supplier Device Package: 0402 (1005 Metric); Size / Dimension: 0.039" L x 0.020" W (1.00mm x 0.50mm); Height: 0.016" (0.40mm); Number of Terminations: 2; ComponentLink1URL: http://rohmfs.rohm.com/en/products/databook/datasheet/passive/resistor/chip_resistor/mcr_g.pdf; ComponentLink1Description: http://rohmfs.rohm.com/en/products/databook/datasheet/passive/resistor/chip_resistor/mcr_g.pdf
footprint RESC1005X04L (Chip Resistor, 2-Leads, Body 1,00x0,50mm, IPC High Density)
pins: 1, 2

## MCR01MRTF3010
designator R?, comment 301
RES SMD 301 OHM 1% 1/16W 0402; Manufacturer: Rohm Semiconductor; Manufacturer Part Number: MCR01MRTF3010; Power (Watts): 0.063W, 1/16W; Temperature Coefficient: ±100ppm/°C; Supplier 1: Digi-Key; RoHS: RoHS Compliant; Category: Resistors; Stock 1: 9901; Pricing 1: 1=0.09, 10=0.026, 25=0.0184, 100=0.0103, 250=0.00792, 500=0.00632, 1000=0.00466, 5000=0.00334 (EUR); Packaging: Cut Tape (CT); Resistance (Ohms): 301; Tolerance: ±1%; Composition: Thick Film; Features: -; Operating Temperature: -55°C ~ 155°C; Package / Case: 0402 (1005 Metric); Supplier Device Package: 0402 (1005 Metric); Size / Dimension: 0.039" L x 0.020" W (1.00mm x 0.50mm); Height: 0.016" (0.40mm); Number of Terminations: 2; ComponentLink1URL: http://rohmfs.rohm.com/en/products/databook/datasheet/passive/resistor/chip_resistor/mcr_g.pdf; ComponentLink1Description: http://rohmfs.rohm.com/en/products/databook/datasheet/passive/resistor/chip_resistor/mcr_g.pdf; Supplier Part Number 1: RHM301CDCT-ND
footprint RESC1005X04L (Chip Resistor, 2-Leads, Body 1,00x0,50mm, IPC High Density)
pins: 1, 2

## MCR01MRTF3921
designator R?, comment 3.92 k
RES SMD 3.92K OHM 1% 1/16W 0402; Manufacturer: Rohm Semiconductor; Manufacturer Part Number: MCR01MRTF3921; Power (Watts): 0.063W, 1/16W; Temperature Coefficient: ±100ppm/°C; Supplier 1: Digi-Key; RoHS: RoHS Compliant; Category: Resistors; Stock 1: 9201; Pricing 1: 1=0.09, 10=0.026, 25=0.0184, 100=0.0103, 250=0.00792, 500=0.00632, 1000=0.00466, 5000=0.00334 (EUR); Packaging: Cut Tape (CT); Resistance (Ohms): 3.92k; Tolerance: ±1%; Composition: Thick Film; Features: -; Operating Temperature: -55°C ~ 155°C; Package / Case: 0402 (1005 Metric); Supplier Device Package: 0402 (1005 Metric); Size / Dimension: 0.039" L x 0.020" W (1.00mm x 0.50mm); Height: 0.016" (0.40mm); Number of Terminations: 2; ComponentLink1URL: http://rohmfs.rohm.com/en/products/databook/datasheet/passive/resistor/chip_resistor/mcr_g.pdf; ComponentLink1Description: http://rohmfs.rohm.com/en/products/databook/datasheet/passive/resistor/chip_resistor/mcr_g.pdf; Supplier Part Number 1: RHM3.92KCDCT-ND
footprint RESC1005X04L (Chip Resistor, 2-Leads, Body 1,00x0,50mm, IPC High Density)
pins: 1, 2

## MCR01MRTF4022
designator R?, comment 40.2 k
RES 40.2K OHM 1/16W 1% 0402 SMD; Manufacturer: Rohm Semiconductor; Manufacturer Part Number: MCR01MRTF4022; Power (Watts): 0.063W, 1/16W; Temperature Coefficient: ±100ppm/°C; Supplier 1: Digi-Key; Supplier Part Number 1: RHM40.2KCDCT-ND; RoHS: RoHS Compliant; Category: Resistors; Stock 1: 15641; Pricing 1: 1=0.09, 10=0.01, 25=0.0092, 100=0.0065, 250=0.00384, 500=0.00318, 1000=0.00217, 5000=0.00167 (EUR); Packaging: Cut Tape (CT); Resistance (Ohms): 40.2k; Tolerance: ±1%; Composition: Thick Film; Features: -; Operating Temperature: -55°C ~ 155°C; Package / Case: 0402 (1005 Metric); Supplier Device Package: 0402 (1005 Metric); Size / Dimension: 0.039" L x 0.020" W (1.00mm x 0.50mm); Height: 0.016" (0.40mm); Number of Terminations: 2; ComponentLink1URL: http://rohmfs.rohm.com/en/products/databook/datasheet/passive/resistor/chip_resistor/mcr_g.pdf; ComponentLink1Description: http://rohmfs.rohm.com/en/products/databook/datasheet/passive/resistor/chip_resistor/mcr_g.pdf
footprint RESC1005X04L (Chip Resistor, 2-Leads, Body 1,00x0,50mm, IPC High Density)
pins: 1, 2

## MCR01MRTF4752
designator R?, comment 47.5 k
RES 47.5K OHM 1/16W 1% 0402 SMD; Manufacturer: Rohm Semiconductor; Manufacturer Part Number: MCR01MRTF4752; Power (Watts): 0.063W, 1/16W; Temperature Coefficient: ±100ppm/°C; Supplier 1: Digi-Key; Supplier Part Number 1: RHM47.5KCDCT-ND; RoHS: RoHS Compliant; Category: Resistors; Stock 1: 281; Pricing 1: 1=0.09, 10=0.01, 25=0.0092, 100=0.0065, 250=0.00384, 500=0.00318, 1000=0.00217, 5000=0.00167 (EUR); Packaging: Cut Tape (CT); Resistance (Ohms): 47.5k; Tolerance: ±1%; Composition: Thick Film; Features: -; Operating Temperature: -55°C ~ 155°C; Package / Case: 0402 (1005 Metric); Supplier Device Package: 0402 (1005 Metric); Size / Dimension: 0.039" L x 0.020" W (1.00mm x 0.50mm); Height: 0.016" (0.40mm); Number of Terminations: 2; ComponentLink1URL: http://rohmfs.rohm.com/en/products/databook/datasheet/passive/resistor/chip_resistor/mcr_g.pdf; ComponentLink1Description: http://rohmfs.rohm.com/en/products/databook/datasheet/passive/resistor/chip_resistor/mcr_g.pdf
footprint RESC1005X04L (Chip Resistor, 2-Leads, Body 1,00x0,50mm, IPC High Density)
pins: 1, 2

## MCR01MRTF5101
designator R?, comment 5.1 k
RES 5.1K OHM 1/16W 1% 0402 SMD; Manufacturer: Rohm Semiconductor; Manufacturer Part Number: MCR01MRTF5101; Power (Watts): 0.063W, 1/16W; Temperature Coefficient: ±100ppm/°C; Supplier 1: Digi-Key; Supplier Part Number 1: RHM5.10KCDCT-ND; RoHS: RoHS Compliant; Category: Resistors; Stock 1: 29408; Pricing 1: 1=0.09, 10=0.01, 25=0.0092, 100=0.0065, 250=0.00384, 500=0.00318, 1000=0.00217, 5000=0.00167 (EUR); Packaging: Cut Tape (CT); Resistance (Ohms): 5.1k; Tolerance: ±1%; Composition: Thick Film; Features: -; Operating Temperature: -55°C ~ 155°C; Package / Case: 0402 (1005 Metric); Supplier Device Package: 0402 (1005 Metric); Size / Dimension: 0.039" L x 0.020" W (1.00mm x 0.50mm); Height: 0.016" (0.40mm); Number of Terminations: 2; ComponentLink1URL: http://rohmfs.rohm.com/en/products/databook/datasheet/passive/resistor/chip_resistor/mcr_g.pdf; ComponentLink1Description: http://rohmfs.rohm.com/en/products/databook/datasheet/passive/resistor/chip_resistor/mcr_g.pdf
footprint RESC1005X04L (Chip Resistor, 2-Leads, Body 1,00x0,50mm, IPC High Density)
pins: 1, 2

## MCR01MRTF5362
designator R?, comment 53.6 k
RES 53.6K OHM 1/16W 1% 0402 SMD; Manufacturer: Rohm Semiconductor; Manufacturer Part Number: MCR01MRTF5362; Power (Watts): 0.063W, 1/16W; Temperature Coefficient: ±100ppm/°C; Supplier 1: Digi-Key; Supplier Part Number 1: RHM53.6KCDCT-ND; RoHS: RoHS Compliant; Category: Resistors; Stock 1: 4850; Pricing 1: 1=0.09, 10=0.01, 25=0.0092, 100=0.0065, 250=0.00384, 500=0.00318, 1000=0.00217, 5000=0.00167 (EUR); Packaging: Cut Tape (CT); Resistance (Ohms): 53.6k; Tolerance: ±1%; Composition: Thick Film; Features: -; Operating Temperature: -55°C ~ 155°C; Package / Case: 0402 (1005 Metric); Supplier Device Package: 0402 (1005 Metric); Size / Dimension: 0.039" L x 0.020" W (1.00mm x 0.50mm); Height: 0.016" (0.40mm); Number of Terminations: 2; ComponentLink1URL: http://rohmfs.rohm.com/en/products/databook/datasheet/passive/resistor/chip_resistor/mcr_g.pdf; ComponentLink1Description: http://rohmfs.rohm.com/en/products/databook/datasheet/passive/resistor/chip_resistor/mcr_g.pdf
footprint RESC1005X04L (Chip Resistor, 2-Leads, Body 1,00x0,50mm, IPC High Density)
pins: 1, 2

## MCR01MRTF9101
designator R?, comment 9.1 k
RES SMD 9.1K OHM 1% 1/16W 0402; Manufacturer: Rohm Semiconductor; Manufacturer Part Number: MCR01MRTF9101; Power (Watts): 0.063W, 1/16W; Temperature Coefficient: ±100ppm/°C; Supplier 1: Digi-Key; RoHS: RoHS Compliant; Category: Resistors; Stock 1: 52734; Pricing 1: 1=0.09, 10=0.026, 25=0.0188, 100=0.0105, 250=0.00804, 500=0.00642, 1000=0.00473, 5000=0.00339 (EUR); Packaging: Cut Tape (CT); Resistance (Ohms): 9.1k; Tolerance: ±1%; Composition: Thick Film; Features: -; Operating Temperature: -55°C ~ 155°C; Package / Case: 0402 (1005 Metric); Supplier Device Package: 0402 (1005 Metric); Size / Dimension: 0.039" L x 0.020" W (1.00mm x 0.50mm); Height: 0.016" (0.40mm); Number of Terminations: 2; ComponentLink1URL: http://rohmfs.rohm.com/en/products/databook/datasheet/passive/resistor/chip_resistor/mcr_g.pdf; ComponentLink1Description: http://rohmfs.rohm.com/en/products/databook/datasheet/passive/resistor/chip_resistor/mcr_g.pdf; Supplier Part Number 1: RHM9.1KCDCT-ND
footprint RESC1005X04L (Chip Resistor, 2-Leads, Body 1,00x0,50mm, IPC High Density)
pins: 1, 2

## MCR01MRTJ150
designator R?, comment 15
RES 15 OHM 1/16W 5% 0402 SMD; Manufacturer: Rohm Semiconductor; Manufacturer Part Number: MCR01MRTJ150; Power (Watts): 0.063W, 1/16W; Temperature Coefficient: ±200ppm/°C; Supplier 1: Digi-Key; Supplier Part Number 1: RHM15CECT-ND; RoHS: RoHS Compliant; Category: Resistors; Stock 1: 17530; Pricing 1: 1=0.09, 10=0.01, 25=0.0092, 100=0.0065, 250=0.00384, 500=0.00318, 1000=0.00217, 5000=0.00167 (EUR); Packaging: Cut Tape (CT); Resistance (Ohms): 15; Tolerance: ±5%; Composition: Thick Film; Features: -; Operating Temperature: -55°C ~ 155°C; Package / Case: 0402 (1005 Metric); Supplier Device Package: 0402 (1005 Metric); Size / Dimension: 0.039" L x 0.020" W (1.00mm x 0.50mm); Height: 0.016" (0.40mm); Number of Terminations: 2; ComponentLink1URL: http://rohmfs.rohm.com/en/products/databook/datasheet/passive/resistor/chip_resistor/mcr_g.pdf; ComponentLink1Description: http://rohmfs.rohm.com/en/products/databook/datasheet/passive/resistor/chip_resistor/mcr_g.pdf
footprint RESC1005X04L (Chip Resistor, 2-Leads, Body 1,00x0,50mm, IPC High Density)
pins: 1, 2

## MCR01MRTJ330
designator R?, comment 33
RES 33 OHM 1/16W 5% 0402 SMD; Manufacturer: Rohm Semiconductor; Manufacturer Part Number: MCR01MRTJ330; Power (Watts): 0.063W, 1/16W; Temperature Coefficient: ±200ppm/°C; Supplier 1: Digi-Key; Supplier Part Number 1: RHM33CECT-ND; RoHS: RoHS Compliant; Category: Resistors; Stock 1: 46782; Pricing 1: 1=0.09, 10=0.011, 25=0.008, 100=0.0046, 250=0.00348, 500=0.00278, 1000=0.00205, 5000=0.00147 (EUR); Packaging: Cut Tape (CT); Resistance (Ohms): 33; Tolerance: ±5%; Composition: Thick Film; Features: -; Operating Temperature: -55°C ~ 155°C; Package / Case: 0402 (1005 Metric); Supplier Device Package: 0402 (1005 Metric); Size / Dimension: 0.039" L x 0.020" W (1.00mm x 0.50mm); Height: 0.016" (0.40mm); Number of Terminations: 2; ComponentLink1URL: http://rohmfs.rohm.com/en/products/databook/datasheet/passive/resistor/chip_resistor/mcr_g.pdf; ComponentLink1Description: http://rohmfs.rohm.com/en/products/databook/datasheet/passive/resistor/chip_resistor/mcr_g.pdf
footprint RESC1005X04L (Chip Resistor, 2-Leads, Body 1,00x0,50mm, IPC High Density)
pins: 1, 2

## MCR03ERTF82R0
designator R?, comment 82
RES 82 OHM 1/10W 1% 0603 SMD; Manufacturer: Rohm Semiconductor; Manufacturer Part Number: MCR03ERTF82R0; Power (Watts): 0.1W, 1/10W; Temperature Coefficient: ±100ppm/°C; Supplier 1: Digi-Key; Supplier Part Number 1: RHM82CFCT-ND; RoHS: RoHS Compliant; Category: Resistors; Stock 1: 1751; Pricing 1: 1=0.09, 10=0.01, 25=0.0072, 100=0.0041, 250=0.00312, 500=0.00252, 1000=0.00185 (EUR); Packaging: Cut Tape (CT); Resistance (Ohms): 82; Tolerance: ±1%; Composition: Thick Film; Features: -; Operating Temperature: -55°C ~ 155°C; Package / Case: 0603 (1608 Metric); Supplier Device Package: 0603 (1608 Metric); Size / Dimension: 0.063" L x 0.031" W (1.60mm x 0.80mm); Height: 0.022" (0.55mm); Number of Terminations: 2; ComponentLink1URL: http://rohmfs.rohm.com/en/products/databook/datasheet/passive/resistor/chip_resistor/mcr_g.pdf; ComponentLink1Description: http://rohmfs.rohm.com/en/products/databook/datasheet/passive/resistor/chip_resistor/mcr_g.pdf
footprint RESC1005X04L (Chip Resistor, 2-Leads, Body 1,00x0,50mm, IPC High Density)
pins: 1, 2

## MCR03ERTF1003
designator R?, comment 100 k
RES 100K OHM 1/10W 1% 0603 SMD; Manufacturer: Rohm Semiconductor; Manufacturer Part Number: MCR03ERTF1003; Power (Watts): 0.1W, 1/10W; Temperature Coefficient: ±100ppm/°C; Supplier 1: Digi-Key; Supplier Part Number 1: RHM100KCFCT-ND; RoHS: RoHS Compliant; Category: Resistors; Stock 1: 117693; Pricing 1: 1=0.09, 10=0.01, 25=0.0072, 100=0.0041, 250=0.00312, 500=0.00252, 1000=0.00185 (EUR); Packaging: Cut Tape (CT); Resistance (Ohms): 100k; Tolerance: ±1%; Composition: Thick Film; Features: -; Operating Temperature: -55°C ~ 155°C; Package / Case: 0603 (1608 Metric); Supplier Device Package: 0603 (1608 Metric); Size / Dimension: 0.063" L x 0.031" W (1.60mm x 0.80mm); Height: 0.022" (0.55mm); Number of Terminations: 2; ComponentLink1URL: http://rohmfs.rohm.com/en/products/databook/datasheet/passive/resistor/chip_resistor/mcr_g.pdf; ComponentLink1Description: http://rohmfs.rohm.com/en/products/databook/datasheet/passive/resistor/chip_resistor/mcr_g.pdf
footprint RESC1005X04L (Chip Resistor, 2-Leads, Body 1,00x0,50mm, IPC High Density)
pins: 1, 2